# Altium footprint library ft232hq.PcbLib: 1 footprints
Each footprint in its own frame and in the unit in brackets; x right, y up, seen from the top. Pads: shape width x height; smd on the part's side, far side on the other; paste and mask are expansions set on the pad; w line width, h text height; cw(c..) or ccw(c..) is an arc to the next point about the centre after c.
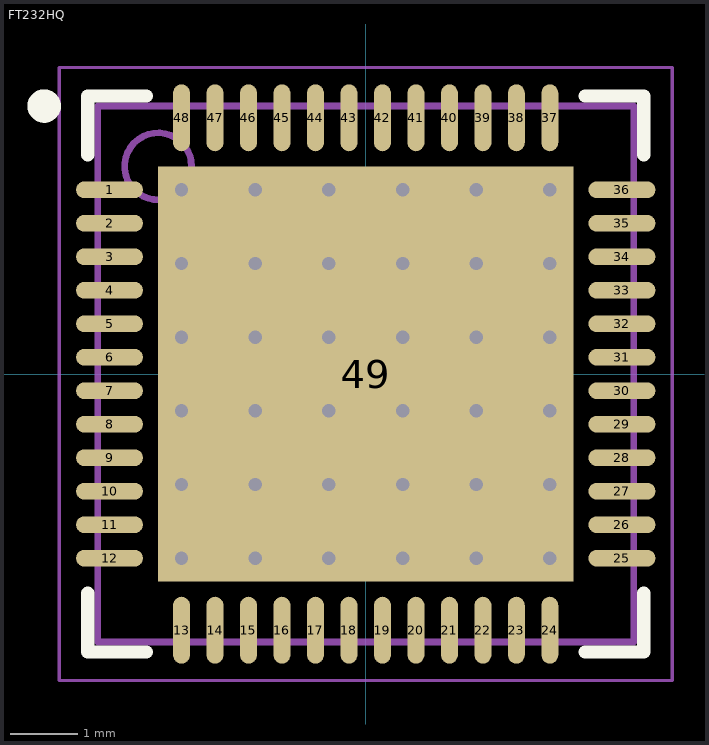
[diagram p0: the footprint, top view; thin cyan lines are the x and y axes]

## FT232HQ [mm] "QFN, 48-Leads, Body 8,00x8,00mm, Pitch 0,50mm, Thermal Pad 6,20x6,20mm, IPC Medium Density"
height 0.9
pads (49):
  oval 1x0.25 smd: 1(-3.825,2.75) 2(-3.825,2.25) 3(-3.825,1.75) 4(-3.825,1.25) 5(-3.825,0.75) 6(-3.825,0.25) 7(-3.825,-0.25) 8(-3.825,-0.75) 9(-3.825,-1.25) 10(-3.825,-1.75) 11(-3.825,-2.25) 12(-3.825,-2.75) 25(3.825,-2.75) 26(3.825,-2.25) 27(3.825,-1.75) 28(3.825,-1.25) 29(3.825,-0.75) 30(3.825,-0.25) 31(3.825,0.25) 32(3.825,0.75) 33(3.825,1.25) 34(3.825,1.75) 35(3.825,2.25) 36(3.825,2.75)
  oval 0.25x1 smd: 13(-2.75,-3.825) 14(-2.25,-3.825) 15(-1.75,-3.825) 16(-1.25,-3.825) 17(-0.75,-3.825) 18(-0.25,-3.825) 19(0.25,-3.825) 20(0.75,-3.825) 21(1.25,-3.825) 22(1.75,-3.825) 23(2.25,-3.825) 24(2.75,-3.825) 37(2.75,3.825) 38(2.25,3.825) 39(1.75,3.825) 40(1.25,3.825) 41(0.75,3.825) 42(0.25,3.825) 43(-0.25,3.825) 44(-0.75,3.825) 45(-1.25,3.825) 46(-1.75,3.825) 47(-2.25,3.825) 48(-2.75,3.825)
  rect 6.2x6.2 smd: 49(0,0)
via -2.75,2.75 diameter 0.5 hole 0.2
via -1.65,2.75 diameter 0.5 hole 0.2
via -0.55,2.75 diameter 0.5 hole 0.2
via 0.55,2.75 diameter 0.5 hole 0.2
via 1.65,2.75 diameter 0.5 hole 0.2
via 2.75,2.75 diameter 0.5 hole 0.2
via -2.75,1.65 diameter 0.5 hole 0.2
via -1.65,1.65 diameter 0.5 hole 0.2
via -0.55,1.65 diameter 0.5 hole 0.2
via 0.55,1.65 diameter 0.5 hole 0.2
via 1.65,1.65 diameter 0.5 hole 0.2
via 2.75,1.65 diameter 0.5 hole 0.2
via -2.75,0.55 diameter 0.5 hole 0.2
via -1.65,0.55 diameter 0.5 hole 0.2
via -0.55,0.55 diameter 0.5 hole 0.2
via 0.55,0.55 diameter 0.5 hole 0.2
via 1.65,0.55 diameter 0.5 hole 0.2
via 2.75,0.55 diameter 0.5 hole 0.2
via -2.75,-0.55 diameter 0.5 hole 0.2
via -1.65,-0.55 diameter 0.5 hole 0.2
via -0.55,-0.55 diameter 0.5 hole 0.2
via 0.55,-0.55 diameter 0.5 hole 0.2
via 1.65,-0.55 diameter 0.5 hole 0.2
via 2.75,-0.55 diameter 0.5 hole 0.2
via -2.75,-1.65 diameter 0.5 hole 0.2
via -1.65,-1.65 diameter 0.5 hole 0.2
via -0.55,-1.65 diameter 0.5 hole 0.2
via 0.55,-1.65 diameter 0.5 hole 0.2
via 1.65,-1.65 diameter 0.5 hole 0.2
via 2.75,-1.65 diameter 0.5 hole 0.2
via -2.75,-2.75 diameter 0.5 hole 0.2
via -1.65,-2.75 diameter 0.5 hole 0.2
via -0.55,-2.75 diameter 0.5 hole 0.2
via 0.55,-2.75 diameter 0.5 hole 0.2
via 1.65,-2.75 diameter 0.5 hole 0.2
via 2.75,-2.75 diameter 0.5 hole 0.2
Top Overlay:
  circle w0.25: c-4.8,4 r0.125
  lines w0.2: -4.15,-3.275 -4.15,-4.15 -3.275,-4.15 ; -4.15,3.275 -4.15,4.15 -3.275,4.15 ; 3.275,-4.15 4.15,-4.15 4.15,-3.275 ; 3.275,4.15 4.15,4.15 4.15,3.275
Mechanical 13:
  circle w0.1: c-3.1,3.1 r0.5
  lines w0.1: -4,-4 -4,4 4,4 4,-4 -4,-4
Mechanical 15:
  lines w0.05: -4.575,-4.575 -4.575,4.575 4.575,4.575 4.575,-4.575 -4.575,-4.575
  lines w0.1: -0.5,0 0.5,0 ; 0,-0.5 0,0.5
3D body: height 0.9, standoff 0.05, extent -4,-4 4,4